# EAGLE library part WE-RJ45_LAN_10/100_BASET_SMD_STD (library Wuerth_Elektronik_eiSos_Version_6-12)
WE-RJ45 LAN Transformer 10/100 BaseT SMD, STD - RJ45 connector with integrated transformer common mode choke - 350 µH min.OCL with 8 mA bias - Extended temperature range from 0°C to +70°C available -- ADSL Modem -- Embedded PC -- LAN network applications -- Hub, Router, Switches
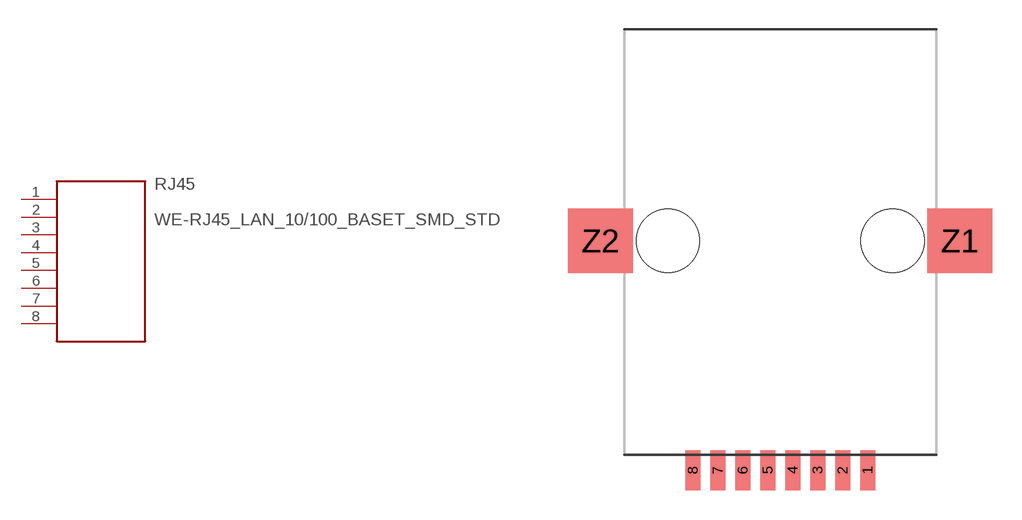
[diagram p108: symbol with the pads of WE-RJ45_LAN_10/100_BASET_7498011001; footprint WE-RJ45_LAN_10/100_BASET_7498011001]

Designator prefix RJ45

## WE-RJ45_LAN_10/100_BASET_SMD_STD_7498011001  [WE-RJ45_LAN_10/100_BASET_7498011001]
1  1  pas
2  2  pas
3  3  pas
4  4  pas
5  5  pas
6  6  pas
7  7  pas
8  8  pas

## Footprint WE-RJ45_LAN_10/100_BASET_7498011001 (pad centres in mm)
WE-RJ45 LAN Transformer 10/100 BaseT SMD
smd 0.76 x 2.03: 1 4.445,-11.68; 2 3.175,-11.68; 3 1.905,-11.68; 4 0.635,-11.68; 5 -0.635,-11.68; 6 -1.905,-11.68; 7 -3.175,-11.68; 8 -4.445,-11.68
smd 3.3 x 3.3: Z1 9.145,0; Z2 -9.145,0
hole 3.22 at -5.715,0
hole 3.22 at 5.715,0